# EAGLE library part 4-DIGIT_7_SEG (library PowerSupply)
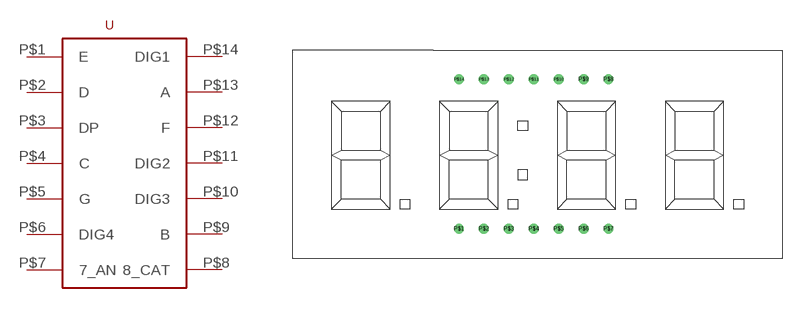
[diagram p0: symbol with the pads of 4-DIGIT_7-SEG; footprint 4-DIGIT_7-SEG]

Designator prefix -

## 4-DIGIT_7_SEG  [4-DIGIT_7-SEG]
P$1  E
P$2  D
P$3  DP
P$4  C
P$5  G
P$6  DIG4
P$7  7_AN
P$8  8_CAT
P$9  B
P$10  DIG3
P$11  DIG2
P$12  F
P$13  A
P$14  DIG1

## Footprint 4-DIGIT_7-SEG (pad centres in mm)
drill 0.5: P$1 0,0; P$2 2.54,0; P$3 5.08,0; P$4 7.62,0; P$5 10.16,0; P$6 12.7,0; P$7 15.24,0; P$8 15.24,15.24; P$9 12.7,15.24; P$10 10.16,15.24; P$11 7.62,15.24; P$12 5.08,15.24; P$13 2.54,15.24; P$14 0,15.24